# Altium schematic symbol library MEM2067-02-180-00-A_REVB.SchLib: 1 symbol
Pins are listed as number, name and electrical type; pins without a type are passive.

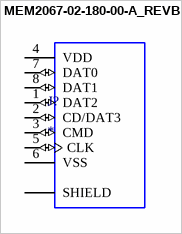
[diagram p0: symbol MEM2067-02-180-00-A_REVB]

## MEM2067-02-180-00-A_REVB
designator J?
Micro SD Memory Card ConnectorSMT, Hinged, 1.80mm Profile; MP: MEM2067-02-180-00-A_REVB; Price: None; Value: *; Package: None; Availability: Unavailable
footprint GCT_MEM2067-02-180-00-A_REVB
pins: 1 DAT2 (io), 2 CD/DAT3 (io), 3 CMD (io), 4 VDD (power), 5 CLK (io), 6 VSS (power), 7 DAT0 (io), 8 DAT1 (io), 9 SHIELD, 10 SHIELD, 11 SHIELD, 12 SHIELD